# EAGLE library part 4DSYSTEMS_LCD (library CougsInSpace)
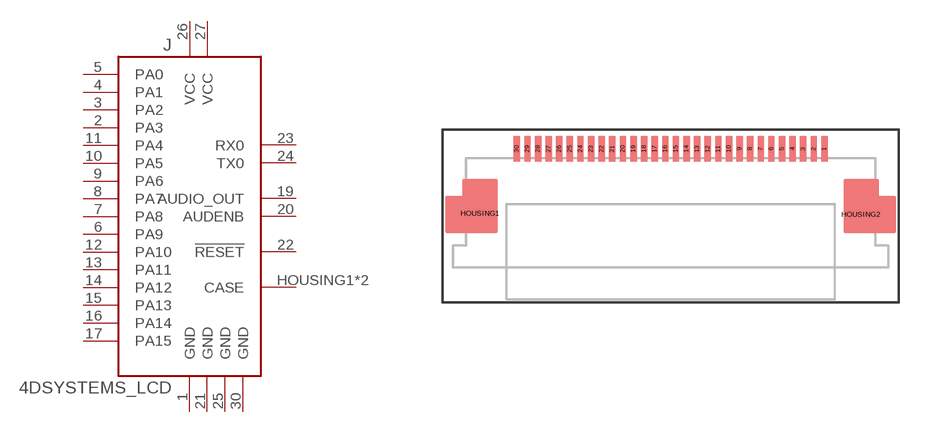
[diagram p16: symbol with the pads of FFC30X0.5MM; footprint FFC30X0.5MM]

Designator prefix J

## 4DSYSTEMS_LCD  [FFC30X0.5MM]
1  GND
2  PA3
3  PA2
4  PA1
5  PA0
6  PA9
7  PA8
8  PA7
9  PA6
10  PA5
11  PA4
12  PA10
13  PA11
14  PA12
15  PA13
16  PA14
17  PA15
19  AUDIO_OUT
20  AUDENB
21  GND
22  !RESET
23  RX0
24  TX0
25  GND
26  VCC
27  VCC
30  GND
HOUSING1  CASE
HOUSING2  CASE

## Footprint FFC30X0.5MM (pad centres in mm)
smd 0.3 x 1.2: 1 7.25,0.6; 2 6.75,0.6; 3 6.25,0.6; 4 5.75,0.6; 5 5.25,0.6; 6 4.75,0.6; 7 4.25,0.6; 8 3.75,0.6; 9 3.25,0.6; 10 2.75,0.6; 11 2.25,0.6; 12 1.75,0.6; 13 1.25,0.6; 14 0.75,0.6; 15 0.25,0.6; 16 -0.25,0.6; 17 -0.75,0.6; 18 -1.25,0.6; 19 -1.75,0.6; 20 -2.25,0.6; 21 -2.75,0.6; 22 -3.25,0.6; 23 -3.75,0.6; 24 -4.25,0.6; 25 -4.75,0.6; 26 -5.25,0.6; 27 -5.75,0.6; 28 -6.25,0.6; 29 -6.75,0.6; 30 -7.25,0.6
smd 1.5 x 1.5: HOUSING1 -9,-2.45; HOUSING2 8.95,-2.5